# Altium footprint library PCB_2023-03-16.PcbLib: 20 footprints (part 1 of 2)
Each footprint in its own frame and in the unit in brackets; x right, y up, seen from the top. Pads: shape width x height; smd on the part's side, far side on the other; paste and mask are expansions set on the pad; w line width, h text height; cw(c..) or ccw(c..) is an arc to the next point about the centre after c.
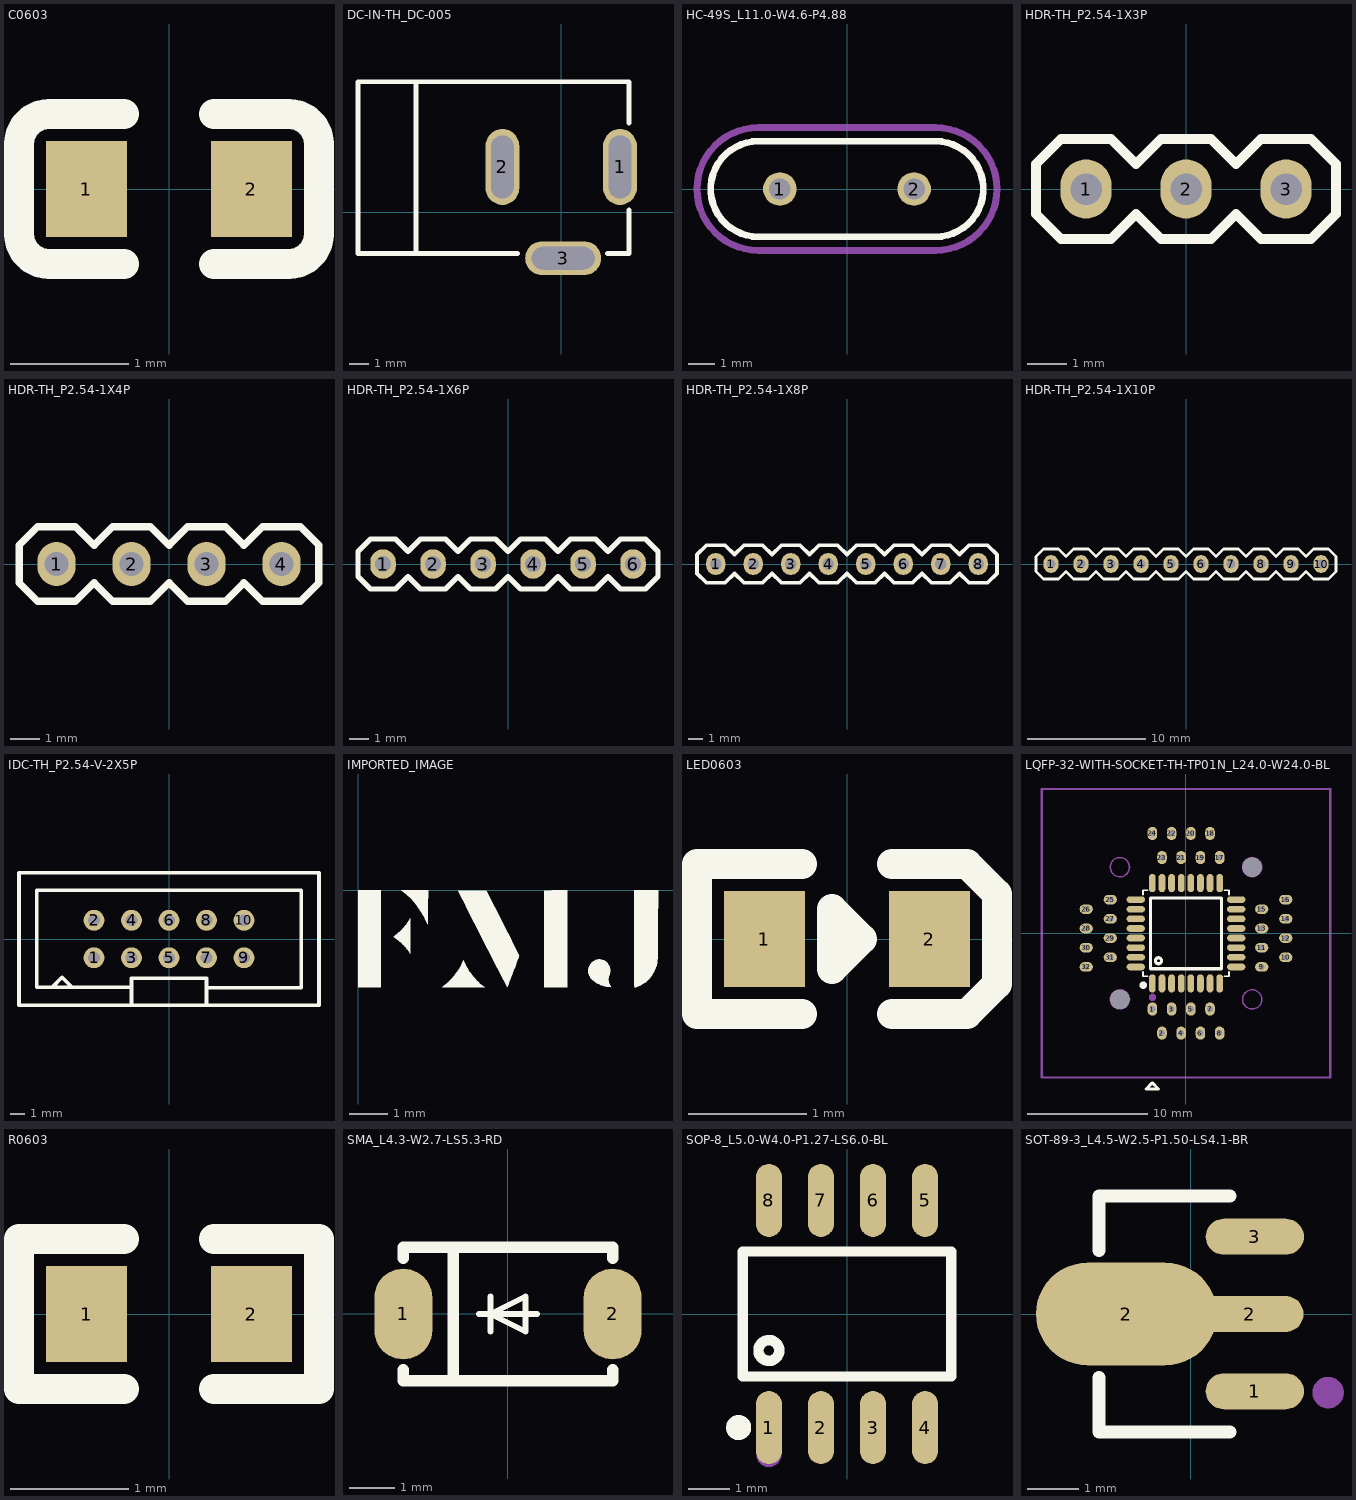
[diagram p0: the footprints below, top view; thin cyan lines are the x and y axes]

## C0603 [mil]
pads (2):
  rect 27x32 smd paste+0 mask+2: 1(-27.5,0) 2(27.5,0)
Top Overlay:
  lines w10: -15,-25 -40,-25 cw(c-40,-15) -50,-15 -50,15 cw(c-40,15) -40,25 -15,25 ; 15,-25 40,-25 ccw(c40,-15) 50,-15 50,15 ccw(c40,15) 40,25 15,25

## DC-IN-TH_DC-005 [mil]
pads (3):
  oval 70x157 hole 47 slot 130 at 90 deg paste+0 mask+4: 1(121.46,94.03) 2(-121.54,94.03)
  oval 157x70 hole 47 slot 130 at 0 deg paste+0 mask+4: 3(3.96,-94.54)
Top Overlay:
  lines w10: -300,270 -300,-85 ; -90,-85 -300,-85 ; 95,-85 140,-85 140,5 ; 140,185 140,270 -420,270 -420,-85 -300,-85

## HC-49S_L11.0-W4.6-P4.88 [mil]
pads (2):
  round 50 hole 32 paste+0 mask+4: 1(-100,0) 2(100,0)
Top Overlay:
  lines w10.16: -132.1,-71.1 cw(c-131.86,0) -132.1,71.1 132.1,71.1 cw(c131.86,0) 132.1,-71.1 -132.1,-71.1
Mechanical 15:
  lines w10.16: -132.1,-91.4 cw(c-131.98,0) -132.1,91.4 132.1,91.4 cw(c131.98,0) 132.1,-91.4 -132.1,-91.4

## HDR-TH_P2.54-1X3P [mil]
pads (3):
  oval 51x59 hole 31.5 paste+0 mask+4: 1(-100,0) 2(0,0) 3(100,0)
Top Overlay:
  lines w10: -150,-25 -150,25 -125,50 -75,50 -50,25 -25,50 25,50 50,25 75,50 125,50 150,25 150,-25 125,-50 75,-50 50,-25 25,-50 -25,-50 -50,-25 -75,-50 -125,-50 -150,-25

## HDR-TH_P2.54-1X4P [mil]
pads (4):
  oval 51x59 hole 31.5 paste+0 mask+4: 1(-150,0) 2(-50,0) 3(50,0) 4(150,0)
Top Overlay:
  lines w10: -200,-25 -175,-50 -125,-50 -100,-25 -75,-50 -25,-50 0,-25 25,-50 75,-50 100,-25 125,-50 175,-50 200,-25 200,25 175,50 125,50 100,25 75,50 25,50 0,25 -25,50 -75,50 -100,25 -125,50 -175,50 -200,25 -200,-25

## HDR-TH_P2.54-1X6P [mil]
pads (6):
  oval 51x59 hole 31.5 paste+0 mask+4: 1(-250,0) 2(-150,0) 3(-50,0) 4(50,0) 5(150,0) 6(250,0)
Top Overlay:
  lines w10: -300,-25 -275,-50 -225,-50 -200,-25 -175,-50 -125,-50 -100,-25 -75,-50 -25,-50 0,-25 25,-50 75,-50 100,-25 125,-50 175,-50 200,-25 225,-50 275,-50 300,-25 300,25 275,50 225,50 200,25 175,50 125,50 100,25 75,50 25,50 0,25 -25,50 -75,50 -100,25 -125,50 -175,50 -200,25 -225,50 -275,50 -300,25 -300,-25

## HDR-TH_P2.54-1X8P [mil]
pads (8):
  oval 51x59 hole 31.5 paste+0 mask+4: 1(-350,0) 2(-250,0) 3(-150,0) 4(-50,0) 5(50,0) 6(150,0) 7(250,0) 8(350,0)
Top Overlay:
  lines w10: -400,-25 -400,25 -375,50 -325,50 -300,25 -275,50 -225,50 -200,25 -175,50 -125,50 -100,25 -75,50 -25,50 0,25 25,50 75,50 100,25 125,50 175,50 200,25 225,50 275,50 300,25 325,50 375,50 400,25 400,-25 375,-50 325,-50 300,-25 275,-50 225,-50 200,-25 175,-50 125,-50 100,-25 75,-50 25,-50 0,-25 -25,-50 -75,-50 -100,-25 -125,-50 -175,-50 -200,-25 -225,-50 -275,-50 -300,-25 -325,-50 -375,-50 -400,-25

## HDR-TH_P2.54-1X10P [mil]
pads (10):
  oval 51x59 hole 31.5 paste+0 mask+4: 1(-450,0) 2(-350,0) 3(-250,0) 4(-150,0) 5(-50,0) 6(50,0) 7(150,0) 8(250,0) 9(350,0) 10(450,0)
Top Overlay:
  lines w10: -500,-25 -475,-50 -425,-50 -400,-25 -375,-50 -325,-50 -300,-25 -275,-50 -225,-50 -200,-25 -175,-50 -125,-50 -100,-25 -75,-50 -25,-50 0,-25 25,-50 75,-50 100,-25 125,-50 175,-50 200,-25 225,-50 275,-50 300,-25 325,-50 375,-50 400,-25 425,-50 475,-50 500,-25 500,25 475,50 425,50 400,25 375,50 325,50 300,25 275,50 225,50 200,25 175,50 125,50 100,25 75,50 25,50 0,25 -25,50 -75,50 -100,25 -125,50 -175,50 -200,25 -225,50 -275,50 -300,25 -325,50 -375,50 -400,25 -425,50 -475,50 -500,25 -500,-25

## IDC-TH_P2.54-V-2X5P [mil]
pads (10):
  round 56 hole 31.5 paste+0 mask+4: 1(-200,-50) 2(-200,50) 3(-100,-50) 4(-100,50) 5(0,-50) 6(0,50) 7(100,-50) 8(100,50) 9(200,-50) 10(200,50)
Top Overlay:
  lines w10: -353,-129 -100,-129 ; -353,-128.66 -353,130 353,130 353,-128.66 ; -312,-129 -285,-102 -258,-129 ; -100,-177 -100,-105 100,-105 100,-177 ; 100,-130 353,-130 ; -400,-177 400,-177 400,177 -400,177 -400,-177

## IMPORTED_IMAGE [mil]
Top Overlay:
  drawing of 8 lines, arcs and shapes, not listed

## LED0603 [mil]
pads (2):
  rect 27x32 smd paste+0 mask+2: 1(-27.5,0) 2(27.49,0)
Top Overlay:
  lines w10: -15,-25 -50,-25 -50,25 -15,25 ; 15,-25 40,-25 50,-15 50,15 40,25 15,25 ; -5,-10 5,0 -5,10 -5,-10

## LQFP-32-WITH-SOCKET-TH-TP01N_L24.0-W24.0-BL [mm]
pads (66):
  oval 0.8x1.1 hole 0.5 paste+0 mask+0.102: 1(-2.8,-6.3) 2(-2,-8.3) 3(-1.2,-6.3) 4(-0.4,-8.3) 5(0.4,-6.3) 6(1.2,-8.3) 7(2,-6.3) 8(2.8,-8.3) 17(2.8,6.3) 18(2,8.3) 19(1.2,6.3) 20(0.4,8.3) 21(-0.4,6.3) 22(-1.2,8.3) 23(-2,6.3) 24(-2.8,8.3)
  oval 0.559x1.524 smd paste+0 mask+0.102: 1(-2.799,-4.176) 2(-1.999,-4.176) 3(-1.199,-4.176) 4(-0.399,-4.176) 5(0.399,-4.176) 6(1.199,-4.176) 7(1.999,-4.176) 8(2.799,-4.176) 17(2.799,4.176) 18(1.999,4.176) 19(1.199,4.176) 20(0.399,4.176) 21(-0.399,4.176) 22(-1.199,4.176) 23(-1.999,4.176) 24(-2.799,4.176)
  oval 1.524x0.559 smd paste+0 mask+0.102: 9(4.176,-2.799) 10(4.176,-1.999) 11(4.176,-1.199) 12(4.176,-0.399) 13(4.176,0.399) 14(4.176,1.199) 15(4.176,1.999) 16(4.176,2.799) 25(-4.176,2.799) 26(-4.176,1.999) 27(-4.176,1.199) 28(-4.176,0.399) 29(-4.176,-0.399) 30(-4.176,-1.199) 31(-4.176,-1.999) 32(-4.176,-2.799)
  oval 1.1x0.8 hole 0.5 paste+0 mask+0.102: 9(6.3,-2.8) 10(8.3,-2) 11(6.3,-1.2) 12(8.3,-0.4) 13(6.3,0.4) 14(8.3,1.2) 15(6.3,2) 16(8.3,2.8) 25(-6.3,2.8) 26(-8.3,2) 27(-6.3,1.2) 28(-8.3,0.4) 29(-6.3,-0.4) 30(-8.3,-1.2) 31(-6.3,-2) 32(-8.3,-2.8)
  round 1.6 hole 1.6 unplated paste+0: ""(-5.5,-5.5) ""(5.5,5.5)
Top Overlay:
  circle w0.254: c-2.286,-2.286 r0.254
  circle w0.305: c-3.556,-4.318 r0.152
  lines w0.152: -3.576,-3.214 -3.576,-3.576 -3.214,-3.576 ; -3.576,3.214 -3.576,3.576 -3.214,3.576 ; 3.214,-3.576 3.576,-3.576 3.576,-3.214 ; 3.214,3.576 3.576,3.576 3.576,3.214
  lines w0.254: -3.308,-12.954 -2.292,-12.954 -2.8,-12.446 -3.308,-12.954 ; -2.95,-2.95 2.95,-2.95 2.95,2.95 -2.95,2.95 -2.95,-2.95
Mechanical 15:
  circle w0.305: c-2.794,-5.334 r0.152
  circle w0.127: c5.5,5.5 r0.8
  circle w0.127: c-5.5,-5.5 r0.8
  circle w0.127: c-5.5,5.5 r0.8
  circle w0.127: c5.5,-5.5 r0.8
  lines w0.2: -12,-12 12,-12 12,12 -12,12 -12,-12
  text "孔径不能小于0.5mm" at -9.525,9.525 h2.03

## R0603 [mil]
pads (2):
  rect 27x32 smd paste+0 mask+2: 1(-27.5,0) 2(27.5,0)
Top Overlay:
  lines w10: -15,-25 -50,-25 -50,25 -15,25 ; 15,-25 50,-25 50,25 15,25

## SMA_L4.3-W2.7-LS5.3-RD [mil]
pads (2):
  oval 50x78 smd paste+0 mask+4: 1(-90,0) 2(90,0)
Top Overlay:
  lines w5: -25,0 25,0 ; -15,-15 -15,0 ; -15,15 -15,0 ; -15,0 15,-15 15,0 15,15 -15,0
  lines w10: -90,-48.1 -90,-57.5 90,-57.5 90,-48.1 ; -90,48.1 -90,57.5 90,57.5 90,48.1 ; -47,-57.5 -47,57.5

## SOP-8_L5.0-W4.0-P1.27-LS6.0-BL [mil]
pads (8):
  oval 25x70 smd paste+0 mask+4: 1(-75,-109) 2(-25,-109) 3(25,-109) 4(75,-109) 5(75,109) 6(25,109) 7(-25,109) 8(-75,109)
Top Overlay:
  circle w12: c-104,-109 r6
  circle w10: c-75,-35 r10
  lines w10: -100,-60 -100,60 100,60 100,-60 -100,-60
Mechanical 15:
  circle w12: c-75,-135 r6

## SOT-89-3_L4.5-W2.5-P1.50-LS4.1-BR [mil]
pads (4):
  oval 75x27.5 smd paste+0 mask+4: 1(49,-59) 3(49,59)
  oval 138x78.5 smd paste+0 mask+4: 2(-49,0)
  oval 82.5x27.5 smd paste+0 mask+4: 2(45,0)
Top Overlay:
  lines w10: -70,-48.35 -70,-90 30,-90 ; -70,48.35 -70,90 30,90
Mechanical 15:
  circle w12: c105,-60 r6